# EAGLE library part LPC1112FD20 (library nxp_60_1_1)
32-bit ARM Cortex-M0 microcontroller; up to 64 kB flash and 8 kB SRAM The LPC1110/11/12/13/14/15 are a ARM Cortex-M0 based, low-cost 32-bit MCU family, designed for 8/16-bit microcontroller applications, offering performance, low power, simple instruction set and memory addressing together with reduced code size compared to existing 8/16-bit architectures. The LPC1110/11/12/13/14/15 operate at CPU frequencies of up to 50 MHz. The peripheral complement of the LPC1110/11/12/13/14/15 includes up to 64 kB of flash memory, up to 8 kB of data memory, one Fast-mode Plus I 2 C-bus interface, one RS-485/EIA-485 UART, up to two SPI interfaces with SSP features, four general purpose counter/timers, a 10-bit ADC, and up to 42 general purpose I/O pins. Remark: The LPC111x series consists of the LPC1100 series (parts LPC111x/101/201/301), LPC1100L series (parts LPC111x/002/102/202/302), and the LPC1100XL series (parts LPC111x/103/203/303/323/333). The LPC1100L and LPC1100XL series include the power profiles, a windowed watchdog timer, and a configurable open-drain mode. AAL Eindhoven MK
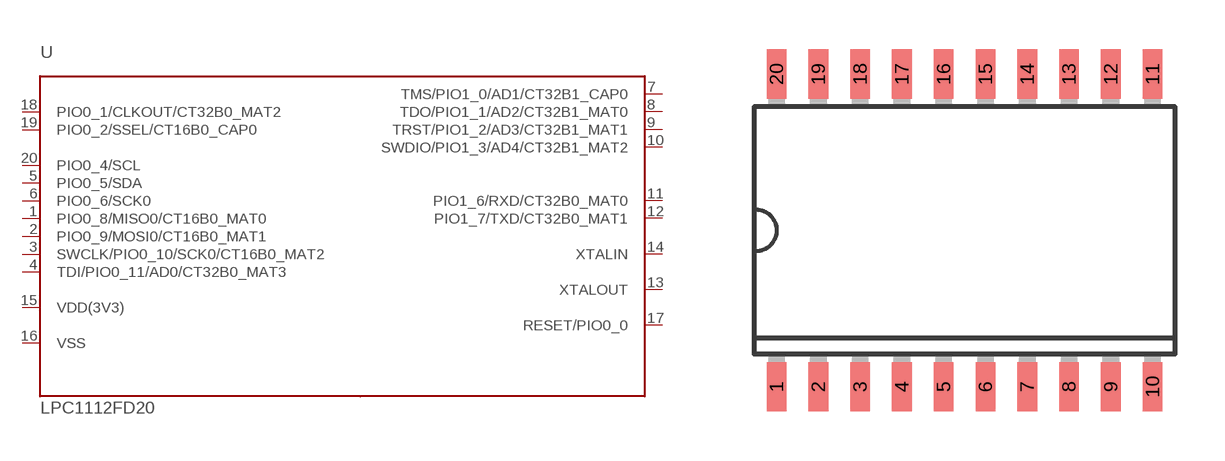
[diagram p44: symbol with the pads of SOT163-1; footprint SOT163-1]

Designator prefix U

## LPC1112FD20/102 (ADC: 5; FLASH: 16kB; GPIO: 16; PWR_PROFILES: yes; SERIES: LPC1100L; SPI: 1; SRAM: 4kB)  [SOT163-1]
1  PIO0_8/MISO0/CT16B0_MAT0
2  PIO0_9/MOSI0/CT16B0_MAT1
3  SWCLK/PIO0_10/SCK0/CT16B0_MAT2
4  TDI/PIO0_11/AD0/CT32B0_MAT3
5  PIO0_5/SDA
6  PIO0_6/SCK0
7  TMS/PIO1_0/AD1/CT32B1_CAP0
8  TDO/PIO1_1/AD2/CT32B1_MAT0
9  TRST/PIO1_2/AD3/CT32B1_MAT1
10  SWDIO/PIO1_3/AD4/CT32B1_MAT2
11  PIO1_6/RXD/CT32B0_MAT0
12  PIO1_7/TXD/CT32B0_MAT1
13  XTALOUT  out
14  XTALIN  in
15  VDD(3V3)  pwr
16  VSS  pwr
17  RESET/PIO0_0
18  PIO0_1/CLKOUT/CT32B0_MAT2
19  PIO0_2/SSEL/CT16B0_CAP0
20  PIO0_4/SCL

## Footprint SOT163-1 (pad centres in mm)
SOT163-1 SO20: plastic small outline package; 20 leads; body width 7.5 mm JEDEC: MS-013 IEC: 075E04
smd 0.6 x 1.5: 1 -5.715,-4.75; 2 -4.445,-4.75; 3 -3.175,-4.75; 4 -1.905,-4.75; 5 -0.635,-4.75; 6 0.635,-4.75; 7 1.905,-4.75; 8 3.175,-4.75; 9 4.445,-4.75; 10 5.715,-4.75; 11 5.715,4.75; 12 4.445,4.75; 13 3.175,4.75; 14 1.905,4.75; 15 0.635,4.75; 16 -0.635,4.75; 17 -1.905,4.75; 18 -3.175,4.75; 19 -4.445,4.75; 20 -5.715,4.75